# Altium schematic symbol library FODM2705.SchLib: 1 symbol
Pins are listed as number, name and electrical type; pins without a type are passive.

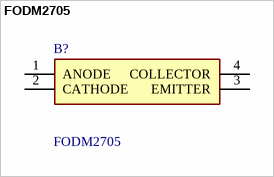
[diagram p0: symbol FODM2705]

## FODM2705
designator B?
Transistor Output Optocouplers AC In Phototransistr Output Optocoupler; Manufacturer_Name: onsemi; Geometry.Height: 2.4mm; Manufacturer_Part_Number: FODM2705; Mouser Part Number: 512-FODM2705; Mouser Price/Stock: https://www.mouser.co.uk/ProductDetail/onsemi-Fairchild/FODM2705?qs=w2ACn%2FLS38EYreIlWngSsw%3D%3D; Arrow Part Number: FODM2705; Arrow Price/Stock: https://www.arrow.com/en/products/fodm2705/on-semiconductor?region=europe; Datasheet Link: https://www.onsemi.com/pdf/datasheet/fodm2705-d.pdf
footprint SOP254P675X240-4N
pins: 1 ANODE, 2 CATHODE, 3 EMITTER, 4 COLLECTOR